# EAGLE library part 5202-06-N-02 (library con-ebyelectro)
Barrier Blocks Sreies 5202 Source: http://www.ebyelectro.com/PDF/5202-XX-N-02.pdf
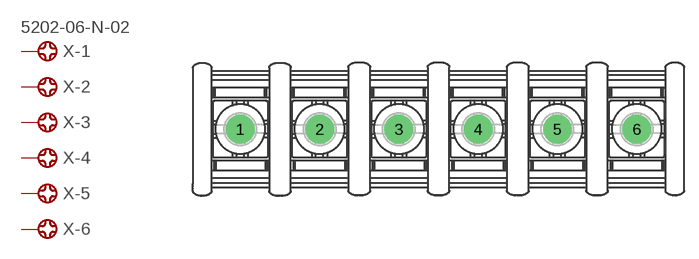
[diagram p1: symbol with the pads of 5202-06-N-02; footprint 5202-06-N-02]

Designator prefix X; gates -1=CONNECT-VALUE -2=CONNECT -3=CONNECT -4=CONNECT -5=CONNECT -6=CONNECT

## 5202-06-N-02 (OC_FARNELL: unknown; OC_NEWARK: unknown)  [5202-06-N-02]
1  -1:1  pas
2  -2:1  pas
3  -3:1  pas
4  -4:1  pas
5  -5:1  pas
6  -6:1  pas

## Footprint 5202-06-N-02 (pad centres in mm)
Barrier Blocks Sreies 5202 Source: http://www.ebyelectro.com/PDF/5202-XX-N-02.pdf
drill 1.5 pad 3: 1 -20.625,0; 2 -12.375,0; 3 -4.125,0; 4 4.125,0; 5 12.375,0; 6 20.625,0